# EAGLE library part S-CPU(5A22) (library snes_mb)
65C816 SNES Main CPU
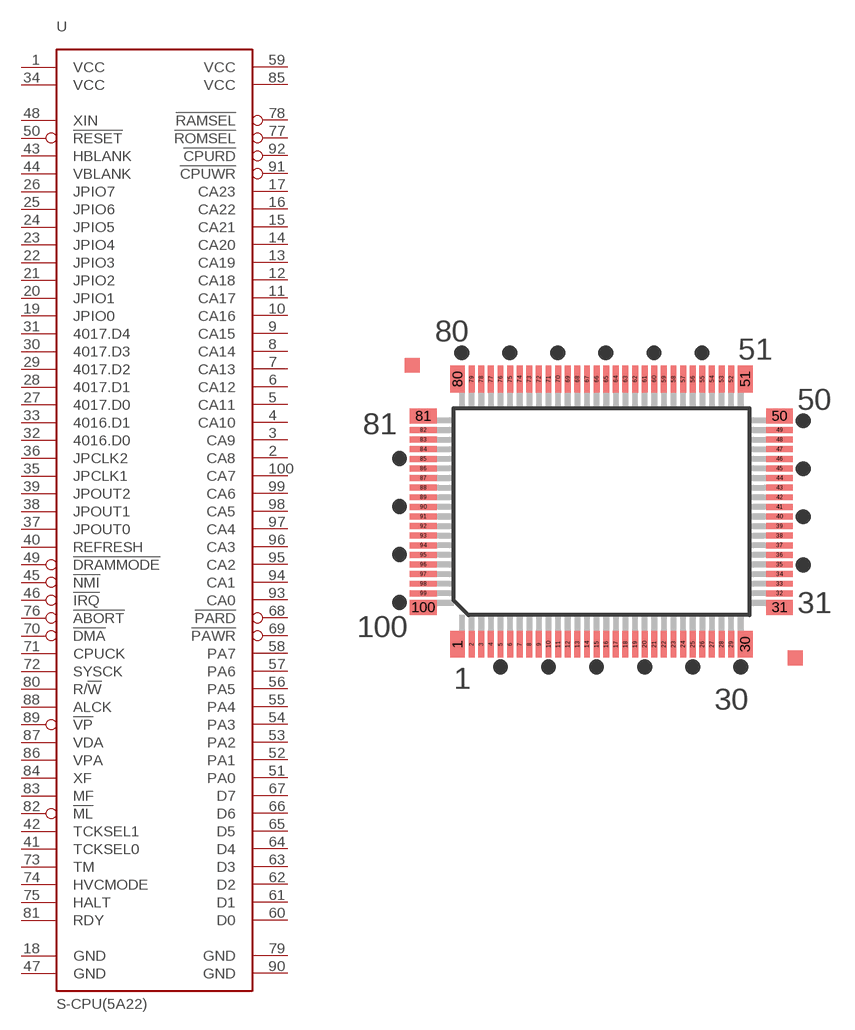
[diagram p2: symbol with the pads of 100QFP0.65; footprint 100QFP0.65]

Designator prefix U

## S-CPU(5A22)  [100QFP0.65]
1  VCC  pwr
2  CA8
3  CA9
4  CA10
5  CA11
6  CA12
7  CA13
8  CA14
9  CA15
10  CA16
11  CA17
12  CA18
13  CA19
14  CA20
15  CA21
16  CA22
17  CA23
18  GND  pwr
19  JPIO0
20  JPIO1
21  JPIO2
22  JPIO3
23  JPIO4
24  JPIO5
25  JPIO6
26  JPIO7
27  4017.D0
28  4017.D1
29  4017.D2
30  4017.D3
31  4017.D4
32  4016.D0
33  4016.D1
34  VCC  pwr
35  JPCLK1
36  JPCLK2
37  JPOUT0
38  JPOUT1
39  JPOUT2
40  REFRESH
41  TCKSEL0
42  TCKSEL1
43  HBLANK
44  VBLANK
45  !NMI
46  !IRQ
47  GND  pwr
48  XIN
49  !DRAMMODE
50  !RESET
51  PA0
52  PA1
53  PA2
54  PA3
55  PA4
56  PA5
57  PA6
58  PA7
59  VCC  pwr
60  D0
61  D1
62  D2
63  D3
64  D4
65  D5
66  D6
67  D7
68  !PARD
69  !PAWR
70  !DMA
71  CPUCK
72  SYSCK
73  TM
74  HVCMODE
75  HALT
76  !ABORT
77  !ROMSEL
78  !RAMSEL
79  GND  pwr
80  R/!W
81  RDY
82  !ML
83  MF
84  XF
85  VCC  pwr
86  VPA
87  VDA
88  ALCK
89  !VP
90  GND  pwr
91  !CPUWR
92  !CPURD
93  CA0
94  CA1
95  CA2
96  CA3
97  CA4
98  CA5
99  CA6
100  CA7

## Footprint 100QFP0.65 (pad centres in mm)
smd 1 x 1.8: 1 -9.725,-8.975; 30 9.725,-8.975; 51 9.725,8.975; 80 -9.725,8.975
smd 0.4 x 1.8: 2 -8.775,-8.975; 3 -8.125,-8.975; 4 -7.475,-8.975; 5 -6.825,-8.975; 6 -6.175,-8.975; 7 -5.525,-8.975; 8 -4.875,-8.975; 9 -4.225,-8.975; 10 -3.575,-8.975; 11 -2.925,-8.975; 12 -2.275,-8.975; 13 -1.625,-8.975; 14 -0.975,-8.975; 15 -0.325,-8.975; 16 0.325,-8.975; 17 0.975,-8.975; 18 1.625,-8.975; 19 2.275,-8.975; 20 2.925,-8.975; 21 3.575,-8.975; 22 4.225,-8.975; 23 4.875,-8.975; 24 5.525,-8.975; 25 6.175,-8.975; 26 6.825,-8.975; 27 7.475,-8.975; 28 8.125,-8.975; 29 8.775,-8.975; 52 8.775,8.975; 53 8.125,8.975; 54 7.475,8.975; 55 6.825,8.975; 56 6.175,8.975; 57 5.525,8.975; 58 4.875,8.975; 59 4.225,8.975; 60 3.575,8.975; 61 2.925,8.975; 62 2.275,8.975; 63 1.625,8.975; 64 0.975,8.975; 65 0.325,8.975; 66 -0.325,8.975; 67 -0.975,8.975; 68 -1.625,8.975; 69 -2.275,8.975; 70 -2.925,8.975; 71 -3.575,8.975; 72 -4.225,8.975; 73 -4.875,8.975; 74 -5.525,8.975; 75 -6.175,8.975; 76 -6.825,8.975; 77 -7.475,8.975; 78 -8.125,8.975; 79 -8.775,8.975
smd 1.8 x 1: 31 12.045,-6.475; 50 12.045,6.475; 81 -12.045,6.475; 100 -12.045,-6.475
smd 1.8 x 0.4: 32 12.045,-5.525; 33 12.045,-4.875; 34 12.045,-4.225; 35 12.045,-3.575; 36 12.045,-2.925; 37 12.045,-2.275; 38 12.045,-1.625; 39 12.045,-0.975; 40 12.045,-0.325; 41 12.045,0.325; 42 12.045,0.975; 43 12.045,1.625; 44 12.045,2.275; 45 12.045,2.925; 46 12.045,3.575; 47 12.045,4.225; 48 12.045,4.875; 49 12.045,5.525; 82 -12.045,5.525; 83 -12.045,4.875; 84 -12.045,4.225; 85 -12.045,3.575; 86 -12.045,2.925; 87 -12.045,2.275; 88 -12.045,1.625; 89 -12.045,0.975; 90 -12.045,0.325; 91 -12.045,-0.325; 92 -12.045,-0.975; 93 -12.045,-1.625; 94 -12.045,-2.275; 95 -12.045,-2.925; 96 -12.045,-3.575; 97 -12.045,-4.225; 98 -12.045,-4.875; 99 -12.045,-5.525